# Altium footprint library FTSH-105-XX-X-DV-K.PcbLib: 1 footprints
Each footprint in its own frame and in the unit in brackets; x right, y up, seen from the top. Pads: shape width x height; smd on the part's side, far side on the other; paste and mask are expansions set on the pad; w line width, h text height; cw(c..) or ccw(c..) is an arc to the next point about the centre after c.
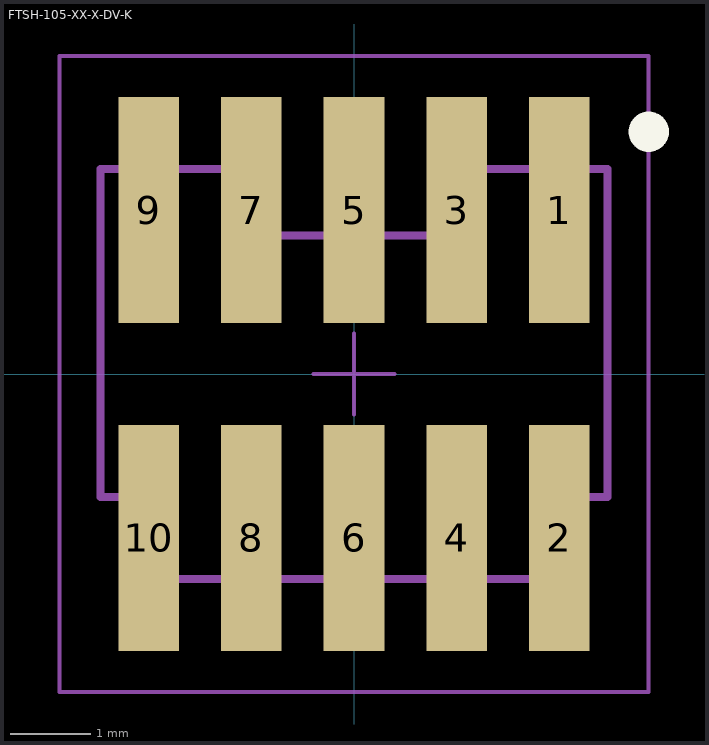
[diagram p0: the footprint, top view; thin cyan lines are the x and y axes]

## FTSH-105-XX-X-DV-K [mm] "1.27mm pitch, 10 pin, terminal strip; vertical, SMT"
height 5.97
pads (10):
  rect 0.75x2.8 smd mask+0: 1(2.54,2.03) 2(2.54,-2.03) 3(1.27,2.03) 4(1.27,-2.03) 5(0,2.03) 6(0,-2.03) 7(-1.27,2.03) 8(-1.27,-2.03) 9(-2.54,2.03) 10(-2.54,-2.03)
Top Overlay:
  circle w0.25: c3.65,3 r0.125
Bottom Dimension:
  lines w0.001: -3.137,-1.524 -2.54,-1.524 -2.54,-2.54 2.54,-2.54 2.54,-1.524 3.137,-1.524 3.137,2.54 1.079,2.54 1.079,1.714 -1.079,1.714 -1.079,2.54 -3.137,2.54 -3.137,-1.524
Top Comp Body:
  lines w0.1: -3.137,-1.524 -2.54,-1.524 -2.54,-2.54 2.54,-2.54 2.54,-1.524 3.137,-1.524 3.137,2.54 1.079,2.54 1.079,1.714 -1.079,1.714 -1.079,2.54 -3.137,2.54 -3.137,-1.524
Top Courtyard:
  lines w0.05: -0.5,0 0.5,0 ; 0,-0.5 0,0.5 ; -3.645,-3.937 -3.645,3.937 3.645,3.937 3.645,-3.937 -3.645,-3.937
3D body "FTSH-105-01-X-DV-K.step": height 6.1, standoff -0.03, extent -3.137,-2.921 3.137,2.921